# EAGLE library part LTC1407 (library IC)
Linear Tech LTC1407/1407A Serial 12/14 bit, 3Msps Simultaneous Sampling ADCs with Shutdown
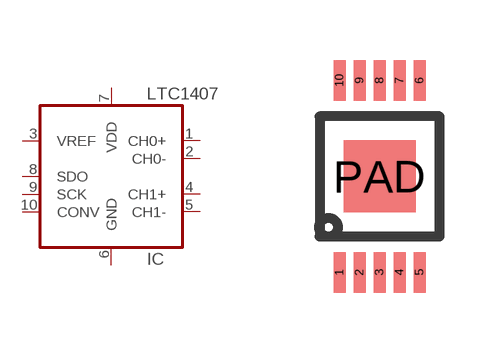
[diagram p97: symbol with the pads of MSOP-10_PWP; footprint MSOP-10_PWP]

Designator prefix IC

## LTC1407  [MSOP-10_PWP]
1  CH0+
2  CH0-
3  VREF  pwr
4  CH1+
5  CH1-
6  GND  pwr
7  VDD  pwr
8  SDO
9  SCK
10  CONV

## Footprint MSOP-10_PWP (pad centres in mm)
10 pin MSOP with thermal pad
smd 0.3 x 1.02: 1 -1,-2.4; 2 -0.5,-2.4; 3 0,-2.4; 4 0.5,-2.4; 5 1,-2.4; 6 1,2.4; 7 0.5,2.4; 8 0,2.4; 9 -0.5,2.4; 10 -1,2.4
smd 1.8 x 1.8: PAD 0,0